# EAGLE library part CON-OMNETICS-A79024-001 (library con-omnetics)
36 Position Dual Row Male Nano-Miniature (.025″/.64mm) Connector; Featuring 4 Guide Posts and Horizontal Surface Mount Tails
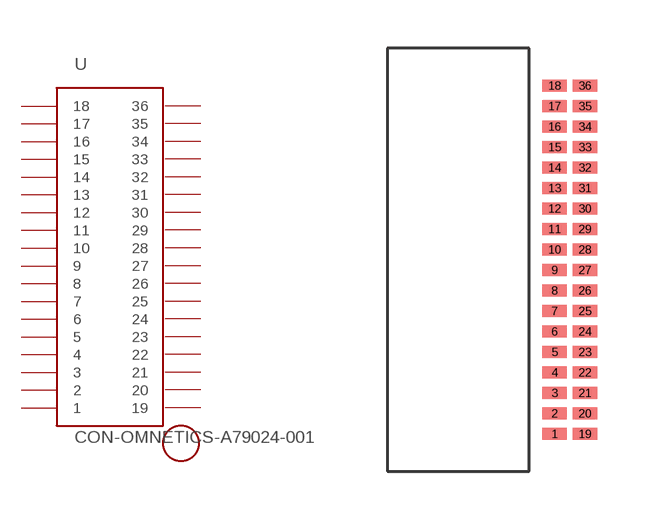
[diagram p0: symbol with the pads of CON-OMNETICS-A79024-001; footprint CON-OMNETICS-A79024-001]

Designator prefix U

## CON-OMNETICS-A79024-001  [CON-OMNETICS-A79024-001]
1  1
2  2
3  3
4  4
5  5
6  6
7  7
8  8
9  9
10  10
11  11
12  12
13  13
14  14
15  15
16  16
17  17
18  18
19  19
20  20
21  21
22  22
23  23
24  24
25  25
26  26
27  27
28  28
29  29
30  30
31  31
32  32
33  33
34  34
35  35
36  36

## Footprint CON-OMNETICS-A79024-001 (pad centres in mm)
Omnectics 36 pin surface mount connector A79024-001
smd 0.762 x 0.381: 1 1.88,-5.397; 2 1.88,-4.763; 3 1.88,-4.128; 4 1.88,-3.493; 5 1.88,-2.857; 6 1.88,-2.223; 7 1.88,-1.587; 8 1.88,-0.953; 9 1.88,-0.318; 10 1.88,0.318; 11 1.88,0.953; 12 1.88,1.587; 13 1.88,2.223; 14 1.88,2.857; 15 1.88,3.493; 16 1.88,4.128; 17 1.88,4.763; 18 1.88,5.397; 19 2.819,-5.397; 20 2.819,-4.763; 21 2.819,-4.128; 22 2.819,-3.493; 23 2.819,-2.857; 24 2.819,-2.223; 25 2.819,-1.587; 26 2.819,-0.953; 27 2.819,-0.318; 28 2.819,0.318; 29 2.819,0.953; 30 2.819,1.587; 31 2.819,2.223; 32 2.819,2.857; 33 2.819,3.493; 34 2.819,4.128; 35 2.819,4.763; 36 2.819,5.397